# Altium schematic symbol library Schlib1.SchLib: 1 symbol
Pins are listed as number, name and electrical type; pins without a type are passive.

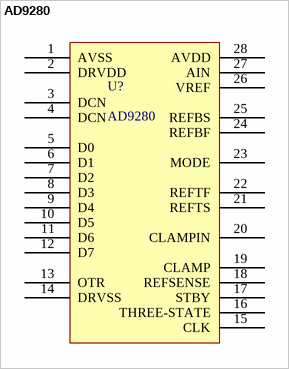
[diagram p0: symbol AD9280]

## AD9280
designator U?
footprint SSOP28 (SSOP, Plastic; 28 Leads; Body Width 5.3 mm; Pitch 0.65 mm)
pins: 1 AVSS (power), 2 DRVDD, 3 DCN, 4 DCN, 5 D0, 6 D1, 7 D2, 8 D3, 9 D4, 10 D5, 11 D6, 12 D7, 13 OTR, 14 DRVSS, 15 CLK, 16 THREE-STATE, 17 STBY, 18 REFSENSE, 19 CLAMP, 20 CLAMPIN, 21 REFTS, 22 REFTF, 23 MODE, 24 REFBF, 25 REFBS, 26 VREF, 27 AIN, 28 AVDD (power)